# Altium schematic symbol library TPS73201DBVR_.SchLib: 1 symbol
Pins are listed as number, name and electrical type; pins without a type are passive.

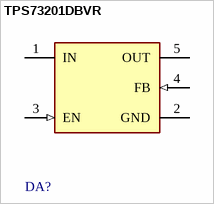
[diagram p0: symbol TPS73201DBVR]

## TPS73201DBVR
designator DA?
IC REG LIN POS ADJ 250MA SOT23-5; Max Power Dissipation: 560mW; Number of Regulators: 1; Max Output Voltage: 5.5V; Polarity: Positive; Reference Voltage: 1.2V; Min Input Voltage: 1.7V; Dropout Voltage: 40mV; Quiescent Current: 550uA; Output Type: Adjustable; Output Voltage Accuracy: 0.5%; Input Bias Current: 400uA; Height: 1.15mm; Output Voltage: 5.5V; Power Dissipation: 560mW; Contact Plating: Tin; Series: -; Packaging: Tape and Reel; Max Operating Temperature: 125°C; Min Current Limit: 250mA; Min Operating Temperature: -40°C; Min Output Voltage: 1.2V; Radiation Hardening: No; Package Quantity: 1; REACH SVHC: No SVHC; Number of Pins: 5; Length: 2.9mm; Case/Package: SOT-23; Output Current: 250mA; Width: 1.6mm; Lead Free: Lead Free; Mount: Surface Mount; Max Output Current: 250mA; RoHS Compliant: Yes; Number of Outputs: 1; Max Input Voltage: 5.5V; Accuracy: 0.5%
footprint Model Name (Footprint not found)
pins: 1 IN (power), 2 GND (power), 3 EN (in), 4 FB (in), 5 OUT (power)